# Altium schematic symbol library WR-FSH.SchLib: 15 symbols
Pins are listed as number, name and electrical type; pins without a type are passive.

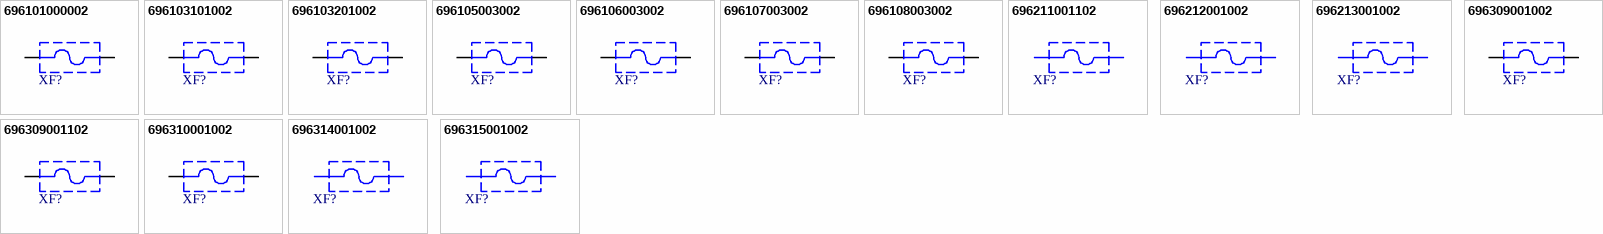
[diagram p0: symbols 696101000002 to 696315001002]

## 696101000002
designator XF?  (value not drawn)
WR-FSH Fuseholder THT Blocks PCB Clip Cover; Manufacturer: Wurth Elektronik; Fuse Size: 5x20mm; ComponentLink1Description: Website Link; ComponentLink1URL: https://www.we-online.com/redexpert/article/696101000002?ad; ComponentLink2Description: Datasheet Link; ComponentLink2URL: https://www.we-online.com/redexpert/spec/696101000002?ad; Manufacturer Part Number: 696101000002; Category: Fuse Holder; Match Code: WR-FSH; Mount: THT; Operating Temperature Max: 120°C; Operating Temperature Min: -30°C; Packaging: Box
footprint 696101000002
pins: 1, 2

## 696103101002
designator XF?  (value not drawn)
WR-FSH Fuseholder SMT Blocks PCB Clip Cover; Manufacturer: Wurth Elektronik; Fuse Size: 5x20mm; ComponentLink1Description: Website Link; ComponentLink1URL: https://www.we-online.com/redexpert/article/696103101002?ad; ComponentLink2Description: Datasheet Link; ComponentLink2URL: https://www.we-online.com/redexpert/spec/696103101002?ad; Manufacturer Part Number: 696103101002; Category: Fuse Holder; Match Code: WR-FSH; Mount: SMT; Operating Temperature Max: 120°C; Operating Temperature Min: -30°C; Packaging: Box
footprint 696103101002
pins: 1, 2

## 696103201002
designator XF?  (value not drawn)
WR-FSH Fuseholder THR Blocks PCB Clip Cover; Manufacturer: Wurth Elektronik; Fuse Size: 5x20mm; ComponentLink1Description: Website Link; ComponentLink1URL: https://www.we-online.com/redexpert/article/696103201002?ad; ComponentLink2Description: Datasheet Link; ComponentLink2URL: https://www.we-online.com/redexpert/spec/696103201002?ad; Manufacturer Part Number: 696103201002; Category: Fuse Holder; Match Code: WR-FSH; Mount: THR; Operating Temperature Max: 120°C; Operating Temperature Min: -30°C; Packaging: Box
footprint 696103201002
pins: 1, 2

## 696105003002
designator XF?  (value not drawn)
WR-FSH Fuseholder THT Blocks PCB Clip Cover; Manufacturer: Wurth Elektronik; Fuse Size: 5x20mm; ComponentLink1Description: Website Link; ComponentLink1URL: https://www.we-online.com/redexpert/article/696105003002?ad; ComponentLink2Description: Datasheet Link; ComponentLink2URL: https://www.we-online.com/redexpert/spec/696105003002?ad; Manufacturer Part Number: 696105003002; Category: Fuse Holder; Match Code: WR-FSH; Mount: THT; Operating Temperature Max: 120°C; Operating Temperature Min: -30°C; Packaging: Box
footprint 696105003002
pins: 1, 2

## 696106003002
designator XF?  (value not drawn)
WR-FSH Fuseholder THT Blocks PCB Clip Cover; Manufacturer: Wurth Elektronik; Fuse Size: 5x20mm; ComponentLink1Description: Website Link; ComponentLink1URL: https://www.we-online.com/redexpert/article/696106003002?ad; ComponentLink2Description: Datasheet Link; ComponentLink2URL: https://www.we-online.com/redexpert/spec/696106003002?ad; Manufacturer Part Number: 696106003002; Category: Fuse Holder; Match Code: WR-FSH; Mount: THT; Operating Temperature Max: 120°C; Operating Temperature Min: -30°C; Packaging: Box
footprint 696106003002
pins: 1, 2

## 696107003002
designator XF?  (value not drawn)
WR-FSH Fuseholder THT Blocks PCB Clip Cover; Manufacturer: Wurth Elektronik; Fuse Size: 5x20mm; ComponentLink1Description: Website Link; ComponentLink1URL: https://www.we-online.com/redexpert/article/696107003002?ad; ComponentLink2Description: Datasheet Link; ComponentLink2URL: https://www.we-online.com/redexpert/spec/696107003002?ad; Manufacturer Part Number: 696107003002; Category: Fuse Holder; Match Code: WR-FSH; Mount: THT; Operating Temperature Max: 120°C; Operating Temperature Min: -30°C; Packaging: Box
footprint 696107003002
pins: 1, 2

## 696108003002
designator XF?  (value not drawn)
WR-FSH Fuseholder THT Blocks PCB Clip Cover; Manufacturer: Wurth Elektronik; Fuse Size: 5x20mm; ComponentLink1Description: Website Link; ComponentLink1URL: https://www.we-online.com/redexpert/article/696108003002?ad; ComponentLink2Description: Datasheet Link; ComponentLink2URL: https://www.we-online.com/redexpert/spec/696108003002?ad; Manufacturer Part Number: 696108003002; Category: Fuse Holder; Match Code: WR-FSH; Mount: THT; Operating Temperature Max: 120°C; Operating Temperature Min: -30°C; Packaging: Box
footprint 696108003002
pins: 1, 2

## 696211001102
designator XF?  (value not drawn)
WR-FSH Shocksafe Fuse Holder Screw and Lock Cover for Panel; Manufacturer: Wurth Elektronik; Fuse Size: 5x20mm; ComponentLink1Description: Website Link; ComponentLink1URL: https://www.we-online.com/redexpert/article/696211001102?ad; ComponentLink2Description: Datasheet Link; ComponentLink2URL: https://www.we-online.com/redexpert/spec/696211001102?ad; Manufacturer Part Number: 696211001102; Category: Fuse Holder; Match Code: WR-FSH; Mount: Manual; Operating Temperature Max: 120°C; Operating Temperature Min: -30°C; Packaging: Box
footprint 696211001102

## 696212001002
designator XF?  (value not drawn)
WR-FSH Shocksafe Fuse Holder Screw and Lock Cover for Panel; Manufacturer: Wurth Elektronik; Fuse Size: 5x20mm; ComponentLink1Description: Website Link; ComponentLink1URL: https://www.we-online.com/redexpert/article/696212001002?ad; ComponentLink2Description: Datasheet Link; ComponentLink2URL: https://www.we-online.com/redexpert/spec/696212001002?ad; Manufacturer Part Number: 696212001002; Category: Fuse Holder; Match Code: WR-FSH; Mount: Manual; Operating Temperature Max: 120°C; Operating Temperature Min: -30°C; Packaging: Box
footprint 696212001002

## 696213001002
designator XF?  (value not drawn)
WR-FSH Shocksafe Fuse Holder Screw and Lock Cover for Panel; Manufacturer: Wurth Elektronik; Fuse Size: 5x20mm; ComponentLink1Description: Website Link; ComponentLink1URL: https://www.we-online.com/redexpert/article/696213001002?ad; ComponentLink2Description: Datasheet Link; ComponentLink2URL: https://www.we-online.com/redexpert/spec/696213001002?ad; Manufacturer Part Number: 696213001002; Category: Fuse Holder; Match Code: WR-FSH; Mount: Manual; Operating Temperature Max: 120°C; Operating Temperature Min: -30°C; Packaging: Box
footprint 696213001002

## 696309001002
designator XF?  (value not drawn)
WR-FSH Shocksafe Fuse Holder Turn and Lock Cover for PCB; Manufacturer: Wurth Elektronik; Fuse Size: 5x20mm; ComponentLink1Description: Website Link; ComponentLink1URL: https://www.we-online.com/redexpert/article/696309001002?ad; ComponentLink2Description: Datasheet Link; ComponentLink2URL: https://www.we-online.com/redexpert/spec/696309001002?ad; Manufacturer Part Number: 696309001002; Category: Fuse Holder; Match Code: WR-FSH; Mount: THT; Operating Temperature Max: 120°C; Operating Temperature Min: -30°C; Packaging: Box
footprint 696309001002
pins: 1, 2

## 696309001102
designator XF?  (value not drawn)
WR-FSH Shocksafe Fuse Holder Turn and Lock Cover for PCB; Manufacturer: Wurth Elektronik; Fuse Size: 5x20mm; ComponentLink1Description: Website Link; ComponentLink1URL: https://www.we-online.com/redexpert/article/696309001102?ad; ComponentLink2Description: Datasheet Link; ComponentLink2URL: https://www.we-online.com/redexpert/spec/696309001102?ad; Manufacturer Part Number: 696309001102; Category: Fuse Holder; Match Code: WR-FSH; Mount: THT; Operating Temperature Max: 120°C; Operating Temperature Min: -30°C; Packaging: Box
footprint 696309001102
pins: 1, 2

## 696310001002
designator XF?  (value not drawn)
WR-FSH Shocksafe Fuse Holder Turn and Lock Cover for PCB; Manufacturer: Wurth Elektronik; Fuse Size: 5x20mm; ComponentLink1Description: Website Link; ComponentLink1URL: https://www.we-online.com/redexpert/article/696310001002?ad; ComponentLink2Description: Datasheet Link; ComponentLink2URL: https://www.we-online.com/redexpert/spec/696310001002?ad; Manufacturer Part Number: 696310001002; Category: Fuse Holder; Match Code: WR-FSH; Mount: THT; Operating Temperature Max: 120°C; Operating Temperature Min: -30°C; Packaging: Box
footprint 696310001002
pins: 1, 2

## 696314001002
designator XF?  (value not drawn)
WR-FSH Shocksafe Fuse Holder Turn and Lock Cover for Panel; Manufacturer: Wurth Elektronik; Fuse Size: 5x20mm; ComponentLink1Description: Website Link; ComponentLink1URL: https://www.we-online.com/redexpert/article/696314001002?ad; ComponentLink2Description: Datasheet Link; ComponentLink2URL: https://www.we-online.com/redexpert/spec/696314001002?ad; Manufacturer Part Number: 696314001002; Category: Fuse Holder; Match Code: WR-FSH; Mount: Manual; Operating Temperature Max: 120°C; Operating Temperature Min: -30°C; Packaging: Box
footprint 696314001002

## 696315001002
designator XF?  (value not drawn)
WR-FSH Shocksafe Fuse Holder Turn and Lock Cover for Panel; Manufacturer: Wurth Elektronik; Fuse Size: 5x20mm; ComponentLink1Description: Website Link; ComponentLink1URL: https://www.we-online.com/redexpert/article/696315001002?ad; ComponentLink2Description: Datasheet Link; ComponentLink2URL: https://www.we-online.com/redexpert/spec/696315001002?ad; Manufacturer Part Number: 696315001002; Category: Fuse Holder; Match Code: WR-FSH; Mount: Manual; Operating Temperature Max: 120°C; Operating Temperature Min: -30°C; Packaging: Box
footprint 696315001002